# Altium schematic symbol library Schlib.SchLib: 22 symbols
Pins are listed as number, name and electrical type; pins without a type are passive.

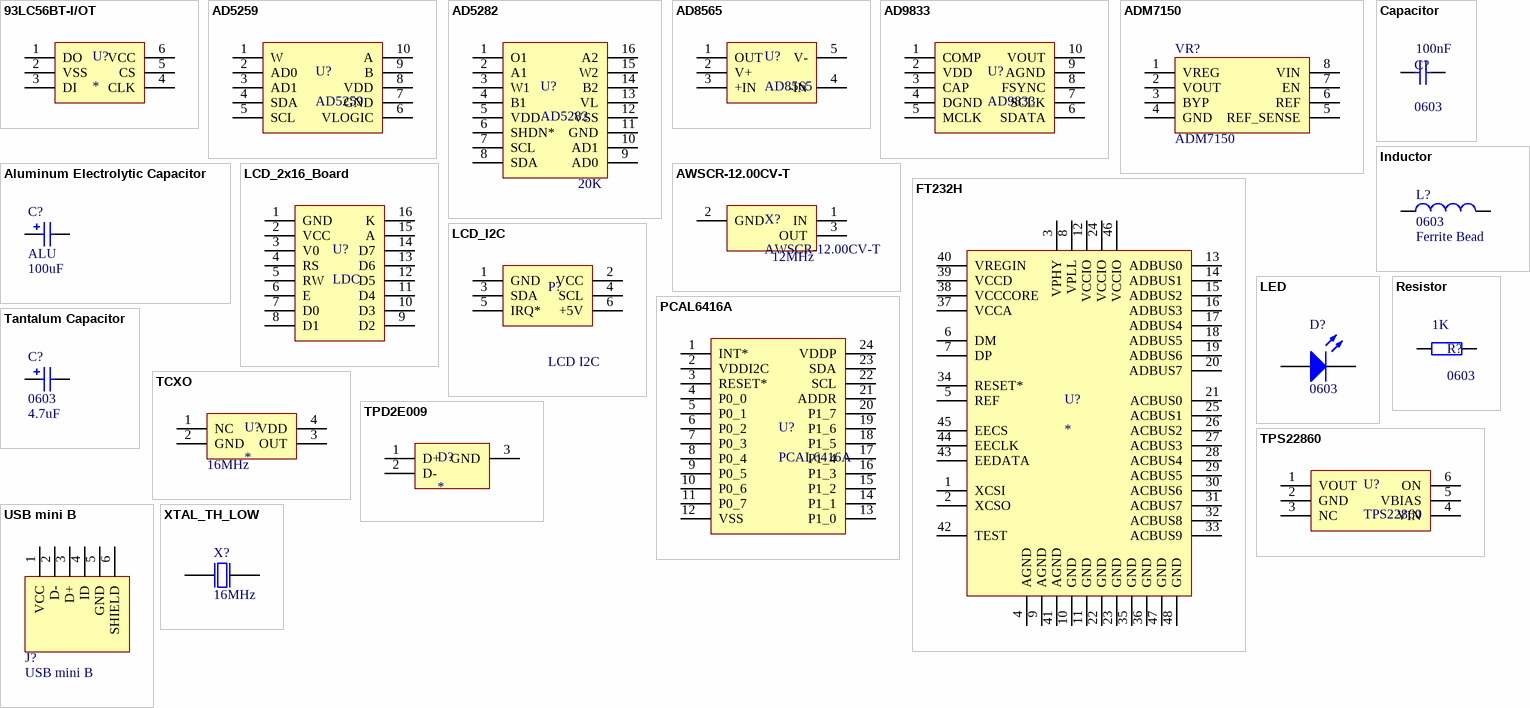
[diagram p0: symbols 93LC56BT-I/OT to XTAL_TH_LOW]

## 93LC56BT-I/OT
designator U?
2K Microwire Compatible Serial EEPROM
footprint 93LC56BT-I/OT_SOT23 (SOT23, 6-Leads, Body 3,1x3,0mm (max), Pitch 0,95mm, IPC Medium Density)
pins: 1 DO, 2 VSS, 3 DI, 4 CLK, 5 CS, 6 VCC

## AD5259
designator U?
Digital potentiometer
footprint AD5259_TSSOP10 (TSSOP, 10-Leads, Body 3,00x3,00mm, Pitch 0,50mm, IPC Medium Density)
pins: 1 W, 2 AD0, 3 AD1, 4 SDA, 5 SCL, 6 VLOGIC, 7 GND, 8 VDD, 9 B, 10 A

## AD5282
designator U?  value 20K
Dual digital potentiometer
footprint AD5282_TSSOP16 (TSOP, 16-Leads, Body 5,00x4,40mm, Pitch 0,65mm, IPC Medium Density)
pins: 1 O1, 2 A1, 3 W1, 4 B1, 5 VDD, 6 SHDN*, 7 SCL, 8 SDA, 9 AD0, 10 AD1, 11 GND, 12 VSS, 13 VL, 14 B2, 15 W2, 16 A2

## AD8565
designator U?
OPAMP
footprint AD8565_SOT23_5 (SOT23, 5-Leads, Body 2,00x2,10mm, Pitch 0,65mm, IPC Medium Density)
pins: 1 OUT, 2 V+, 3 +IN, 4 -IN, 5 V-

## AD9833
designator U?
28-bit DDS
footprint AD9833_MSOP10 (TSSOP, 10-Leads, Body 3,00x3,00mm, Pitch 0,50mm, IPC Medium Density)
pins: 1 COMP, 2 VDD, 3 CAP, 4 DGND, 5 MCLK, 6 SDATA, 7 SCLK, 8 FSYNC, 9 AGND, 10 VOUT

## ADM7150
designator VR?
800 mA Ultralow Noise,  High PSRR, RF Linear Regulator
footprint ADM7150_SOIC8 (SOIC, 8-Leads, Body 4,90x3,90mm, Pitch 1,27mm, Thermal Pad 6,00x2,41mm, IPC Medium Density)
pins: 1 VREG, 2 VOUT, 3 BYP, 4 GND, 5 REF_SENSE, 6 REF, 7 EN, 8 VIN

## Aluminum Electrolytic Capacitor
designator C?, comment ALU  value 100uF
Aluminum Electrolytic Capacitor
footprint EEE1AA101WAR_ALU_CAP (Aluminum Electrolytic Capacitor, Body 5,30x5,30x5,50mm, IPC Low Density)
footprint PANASONIC SIZE D8 (Aluminum Electrolytic Capacitor, Body 6,60x6,60x7,70mm, IPC Low Density)
pins: 1, 2
1 alternate drawing of the same symbol

## AWSCR-12.00CV-T
designator X?  value 12MHz
Resonator, 12 MHz, SMD, 3 Pin, 30 ohm, ± 0.5%, AWSCR Series
footprint AWSCR-12.00CV-T (AWSCR-12.00CV-T - Resonator, 12 MHz, SMD, 3 Pin, 30 ohm, ± 0.5%, AWSCR Series)
pins: 1 IN, 2 GND, 3 OUT

## Capacitor
designator C?, comment 0603  value 100nF
Capacitor
footprint 0603_HandSoldering (Chip Resistor, 2-Leads, Body 1.6x0.8mm, IPC Medium Density)
footprint 0805 (Chip Resistor, Body 2.0x1.2mm, IPC Low Density)
footprint 1206 (Chip Capacitor, Body 3.2x1.6mm, IPC High Density)
footprint SA102A100JAR (AVX SA102A100JAR)
pins: 1, 2

## FT232H
designator U?
Single Channel Hi-Speed USB to Multipurpose UART/FIFO IC
footprint FT232H_LQFP48 (LQFP, 48-Leads, Body 9,2x9,2mm (max), Pitch 0,50mm, IPC Medium Density)
pins: 1 XCSI, 2 XCSO, 3 VPHY, 4 AGND, 5 REF, 6 DM, 7 DP, 8 VPLL, 9 AGND, 10 GND, 11 GND, 12 VCCIO, 13 ADBUS0, 14 ADBUS1, 15 ADBUS2, 16 ADBUS3, 17 ADBUS4, 18 ADBUS5, 19 ADBUS6, 20 ADBUS7, 21 ACBUS0, 22 GND, 23 GND, 24 VCCIO, 25 ACBUS1, 26 ACBUS2, 27 ACBUS3, 28 ACBUS4, 29 ACBUS5, 30 ACBUS6, 31 ACBUS7, 32 ACBUS8, 33 ACBUS9, 34 RESET*, 35 GND, 36 GND, 37 VCCA, 38 VCCCORE, 39 VCCD, 40 VREGIN, 41 AGND, 42 TEST, 43 EEDATA, 44 EECLK, 45 EECS, 46 VCCIO, 47 GND, 48 GND

## Inductor
designator L?, comment 0603  value Ferrite Bead
Inductor
footprint 0603_HandSoldering (Chip Resistor, 2-Leads, Body 1.6x0.8mm, IPC Medium Density)
footprint 0805 (Chip Resistor, Body 2.0x1.2mm, IPC Low Density)
footprint 1206 (Chip Capacitor, Body 3.2x1.6mm, IPC High Density)
pins: 1, 2

## LCD_2x16_Board
designator U?, comment LDC
2x16 LCD PCB
footprint LCD_2x16_Board (2X16 LCD PCB)
pins: 1 GND, 2 VCC, 3 V0, 4 RS, 5 RW, 6 E, 7 D0, 8 D1, 9 D2, 10 D3, 11 D4, 12 D5, 13 D6, 14 D7, 15 A, 16 K

## LCD_I2C
designator P?, comment LCD I2C
LCD I2C interface
footprint IDC6 (Header; 3x2 Position)
pins: 1 GND, 2 VCC, 3 SDA, 4 SCL, 5 IRQ*, 6 +5V

## LED
designator D?, comment 0603
LED
footprint diode_0603_HandSoldering (Chip Diode, 2-Leads, Body 1.6x0.8mm, IPC Medium Density)
pins: 1 K, 2 A

## PCAL6416A
designator U?
I2C to parallel converter
footprint PCAL6416A_TSOP24 (TSOP, 24-Leads, Body 7,80x4,40mm, Pitch 0,65mm, IPC Medium Density)
pins: 1 INT*, 2 VDDI2C, 3 RESET*, 4 P0_0, 5 P0_1, 6 P0_2, 7 P0_3, 8 P0_4, 9 P0_5, 10 P0_6, 11 P0_7, 12 VSS, 13 P1_0, 14 P1_1, 15 P1_2, 16 P1_3, 17 P1_4, 18 P1_5, 19 P1_6, 20 P1_7, 21 ADDR, 22 SCL, 23 SDA, 24 VDDP

## Resistor
designator R?, comment 0603  value 1K
Resistor
footprint 0603_HandSoldering (Chip Resistor, 2-Leads, Body 1.6x0.8mm, IPC Medium Density)
footprint 0805 (Chip Resistor, Body 2.0x1.2mm, IPC Low Density)
footprint 1206 (Chip Capacitor, Body 3.2x1.6mm, IPC High Density)
pins: 1, 2

## Tantalum Capacitor
designator C?, comment 0603  value 4.7uF
Tantalum Capacitor
footprint AVX-CAPC3528_V (SMT Capacitor, 2 Leads, Body 3.5x2.8mm)
pins: 1, 2
1 alternate drawing of the same symbol

## TCXO
designator U?  value 16MHz
FOX FOX924B-16.000  TCXO, 16.0MHZ, 3.3V CMOS, SMD
footprint TCXO_5x3 (TCXO 5mm x 3.2mm)
pins: 1 NC, 2 GND, 3 OUT, 4 VDD

## TPD2E009
designator D?
ESD protection
footprint TPD2E009_SOT23_3 (SOT23, 3-Leads, Body 3,0x2,6mm (max), Pitch 0,95mm, IPC Medium Density)
pins: 1 D+, 2 D-, 3 GND

## TPS22860
designator U?
Power switch
footprint TPS22860_SOT23_6 (SOT23, 6-Leads, Body 2,90x2,80mm, Pitch 0,95mm, IPC Medium Density)
pins: 1 VOUT, 2 GND, 3 NC, 4 VIN, 5 VBIAS, 6 ON

## USB mini B
designator J?
USB 2.0 mini B receptacle
footprint USB MINI B RECEPTACLE (popravek)
pins: 1 VCC, 2 D-, 3 D+, 4 ID, 5 GND, 6 SHIELD

## XTAL_TH_LOW
designator X?, comment 16MHz
XTAL TH low profile; Value: 16MHz
footprint XTAL_TH_LOW (XTAL TH low profile)
pins: 1 inp, 2 out